# EAGLE library part FT232RLREEL (library Labops_Lib_AH)
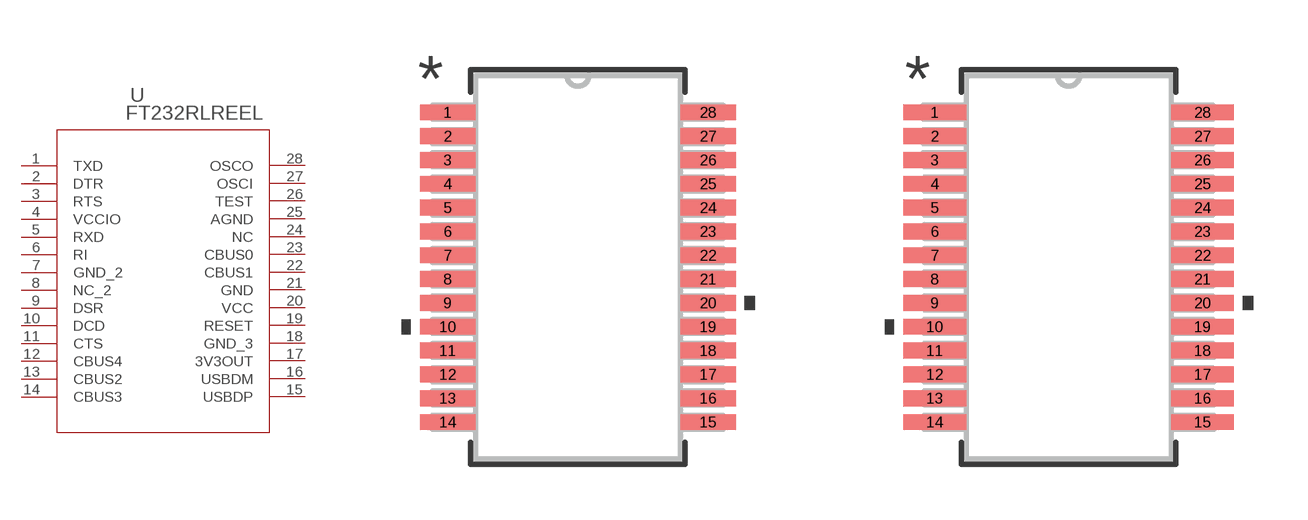
[diagram p49: symbol with the pads of SSOP-28_FTD; footprints SSOP-28_FTD, SSOP-28_FTD-M]

Designator prefix U

## FT232RLREEL (BUILT_BY: EMA_Cory; COPYRIGHT: Copyright (C) 2018 Accelerated Designs. All rights reserved; DATASHEET: https://www.ftdichip.com/Support/Documents/DataSheets/ICs/DS_FT232R.pdf; PARTNO: FT232RLREEL; SOURCELIBRARY: FTDI_2020-06-08; VENDOR: FTDI)  [SSOP-28_FTD]
1  TXD  out
2  DTR  out
3  RTS  out
4  VCCIO  pwr
5  RXD  in
6  RI  in
7  GND_2  pas
8  NC_2  nc
9  DSR  in
10  DCD  in
11  CTS  in
12  CBUS4
13  CBUS2
14  CBUS3
15  USBDP
16  USBDM
17  3V3OUT  out
18  GND_3  pas
19  RESET  in
20  VCC  pwr
21  GND  pas
22  CBUS1
23  CBUS0
24  NC  nc
25  AGND  pas
26  TEST  in
27  OSCI  in
28  OSCO  out

## FT232RLREELSSOP-28_FTD-M (BUILT_BY: EMA_Cory; COPYRIGHT: Copyright (C) 2018 Accelerated Designs. All rights reserved; DATASHEET: https://www.ftdichip.com/Support/Documents/DataSheets/ICs/DS_FT232R.pdf; MANUFACTURER_PART_NUMBER: FT232RLREEL; SOURCELIBRARY: FTDI_2020-06-08; VENDOR: FTDI)  [SSOP-28_FTD-M]
Pads as for SSOP-28_FTD

## FT232RLREELSSOP-28_FTD-L (BUILT_BY: EMA_Cory; COPYRIGHT: Copyright (C) 2018 Accelerated Designs. All rights reserved; DATASHEET: https://www.ftdichip.com/Support/Documents/DataSheets/ICs/DS_FT232R.pdf; MANUFACTURER_PART_NUMBER: FT232RLREEL; SOURCELIBRARY: FTDI_2020-06-08; VENDOR: FTDI)  [SSOP-28_FTD-L]
Pads as for SSOP-28_FTD

## Footprint SSOP-28_FTD (pad centres in mm)
smd 1.511 x 0.432: 1 -3.55,4.225; 2 -3.55,3.575; 3 -3.55,2.925; 4 -3.55,2.275; 5 -3.55,1.625; 6 -3.55,0.975; 7 -3.55,0.325; 8 -3.55,-0.325; 9 -3.55,-0.975; 10 -3.55,-1.625; 11 -3.55,-2.275; 12 -3.55,-2.925; 13 -3.55,-3.575; 14 -3.55,-4.225; 15 3.55,-4.225; 16 3.55,-3.575; 17 3.55,-2.925; 18 3.55,-2.275; 19 3.55,-1.625; 20 3.55,-0.975; 21 3.55,-0.325; 22 3.55,0.325; 23 3.55,0.975; 24 3.55,1.625; 25 3.55,2.275; 26 3.55,2.925; 27 3.55,3.575; 28 3.55,4.225

## Footprint SSOP-28_FTD-M (pad centres in mm)
smd 1.714 x 0.432: 1 -3.651,4.225; 2 -3.651,3.575; 3 -3.651,2.925; 4 -3.651,2.275; 5 -3.651,1.625; 6 -3.651,0.975; 7 -3.651,0.325; 8 -3.651,-0.325; 9 -3.651,-0.975; 10 -3.651,-1.625; 11 -3.651,-2.275; 12 -3.651,-2.925; 13 -3.651,-3.575; 14 -3.651,-4.225; 15 3.651,-4.225; 16 3.651,-3.575; 17 3.651,-2.925; 18 3.651,-2.275; 19 3.651,-1.625; 20 3.651,-0.975; 21 3.651,-0.325; 22 3.651,0.325; 23 3.651,0.975; 24 3.651,1.625; 25 3.651,2.275; 26 3.651,2.925; 27 3.651,3.575; 28 3.651,4.225

## Footprint SSOP-28_FTD-L (pad centres in mm)
smd 1.308 x 0.381: 1 -3.448,4.225; 2 -3.448,3.575; 3 -3.448,2.925; 4 -3.448,2.275; 5 -3.448,1.625; 6 -3.448,0.975; 7 -3.448,0.325; 8 -3.448,-0.325; 9 -3.448,-0.975; 10 -3.448,-1.625; 11 -3.448,-2.275; 12 -3.448,-2.925; 13 -3.448,-3.575; 14 -3.448,-4.225; 15 3.448,-4.225; 16 3.448,-3.575; 17 3.448,-2.925; 18 3.448,-2.275; 19 3.448,-1.625; 20 3.448,-0.975; 21 3.448,-0.325; 22 3.448,0.325; 23 3.448,0.975; 24 3.448,1.625; 25 3.448,2.275; 26 3.448,2.925; 27 3.448,3.575; 28 3.448,4.225